# EAGLE library part DP83867CSRGZT (library circuit_tree)
IC
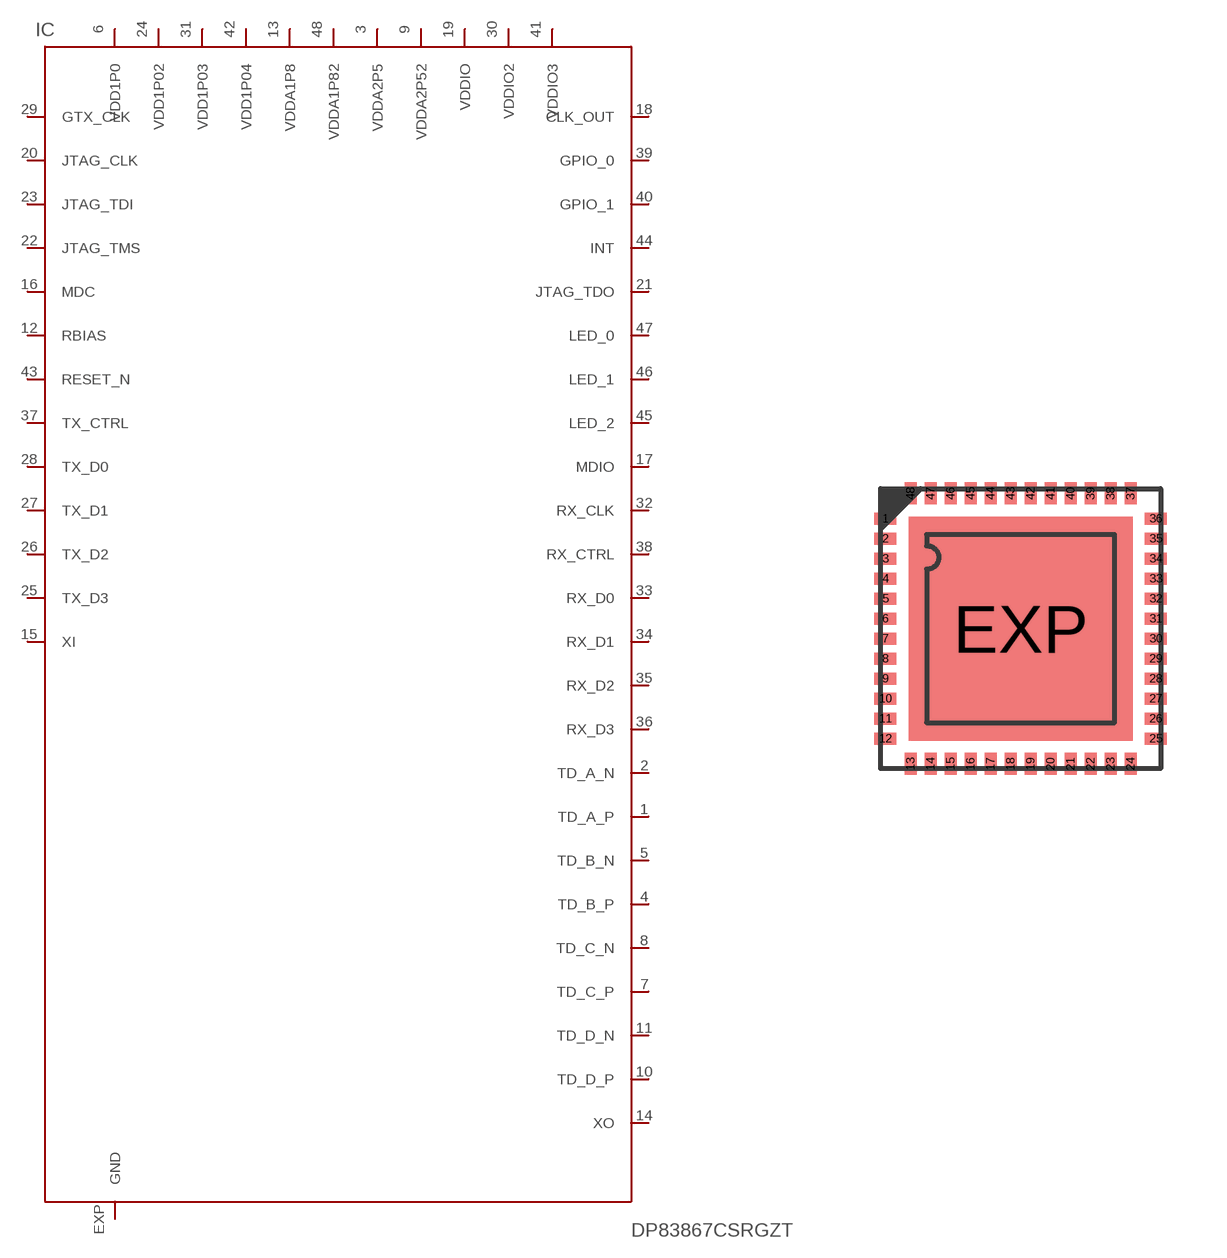
[diagram p4: symbol with the pads of VFQFPN48; footprint VFQFPN48]

Designator prefix IC

## DP83867CSRGZT  [VFQFPN48]
1  TD_A_P  pas
2  TD_A_N  pas
3  VDDA2P5  pas
4  TD_B_P  pas
5  TD_B_N  pas
6  VDD1P0  pas
7  TD_C_P  pas
8  TD_C_N  pas
9  VDDA2P52  pas
10  TD_D_P  pas
11  TD_D_N  pas
12  RBIAS  pas
13  VDDA1P8  pas
14  XO  pas
15  XI  pas
16  MDC  pas
17  MDIO  pas
18  CLK_OUT  pas
19  VDDIO  pas
20  JTAG_CLK  pas
21  JTAG_TDO  pas
22  JTAG_TMS  pas
23  JTAG_TDI  pas
24  VDD1P02  pas
25  TX_D3  pas
26  TX_D2  pas
27  TX_D1  pas
28  TX_D0  pas
29  GTX_CLK  pas
30  VDDIO2  pas
31  VDD1P03  pas
32  RX_CLK  pas
33  RX_D0  pas
34  RX_D1  pas
35  RX_D2  pas
36  RX_D3  pas
37  TX_CTRL  pas
38  RX_CTRL  pas
39  GPIO_0  pas
40  GPIO_1  pas
41  VDDIO3  pas
42  VDD1P04  pas
43  RESET_N  pas
44  INT  pas
45  LED_2  pas
46  LED_1  pas
47  LED_0  pas
48  VDDA1P82  pas
EXP  GND  pas

## Footprint VFQFPN48 (pad centres in mm)
VFQFPN48 7 x 7 mm, 48-pin very thin 0.5 mm pitch quad flat no-lead package
smd 0.55 x 0.3: 1 -3.38,2.75; 2 -3.38,2.25; 3 -3.38,1.75; 4 -3.38,1.25; 5 -3.38,0.75; 6 -3.38,0.25; 7 -3.38,-0.25; 8 -3.38,-0.75; 9 -3.38,-1.25; 10 -3.38,-1.75; 11 -3.38,-2.25; 12 -3.38,-2.75; 25 3.38,-2.75; 26 3.38,-2.25; 27 3.38,-1.75; 28 3.38,-1.25; 29 3.38,-0.75; 30 3.38,-0.25; 31 3.38,0.25; 32 3.38,0.75; 33 3.38,1.25; 34 3.38,1.75; 35 3.38,2.25; 36 3.38,2.75
smd 0.3 x 0.55: 13 -2.75,-3.38; 14 -2.25,-3.38; 15 -1.75,-3.38; 16 -1.25,-3.38; 17 -0.75,-3.38; 18 -0.25,-3.38; 19 0.25,-3.38; 20 0.75,-3.38; 21 1.25,-3.38; 22 1.75,-3.38; 23 2.25,-3.38; 24 2.75,-3.38; 37 2.75,3.38; 38 2.25,3.38; 39 1.75,3.38; 40 1.25,3.38; 41 0.75,3.38; 42 0.25,3.38; 43 -0.25,3.38; 44 -0.75,3.38; 45 -1.25,3.38; 46 -1.75,3.38; 47 -2.25,3.38; 48 -2.75,3.38
smd 5.6 x 5.6: EXP 0,0